# EAGLE library part STM32F407VET6 (library LARS_409_MK)
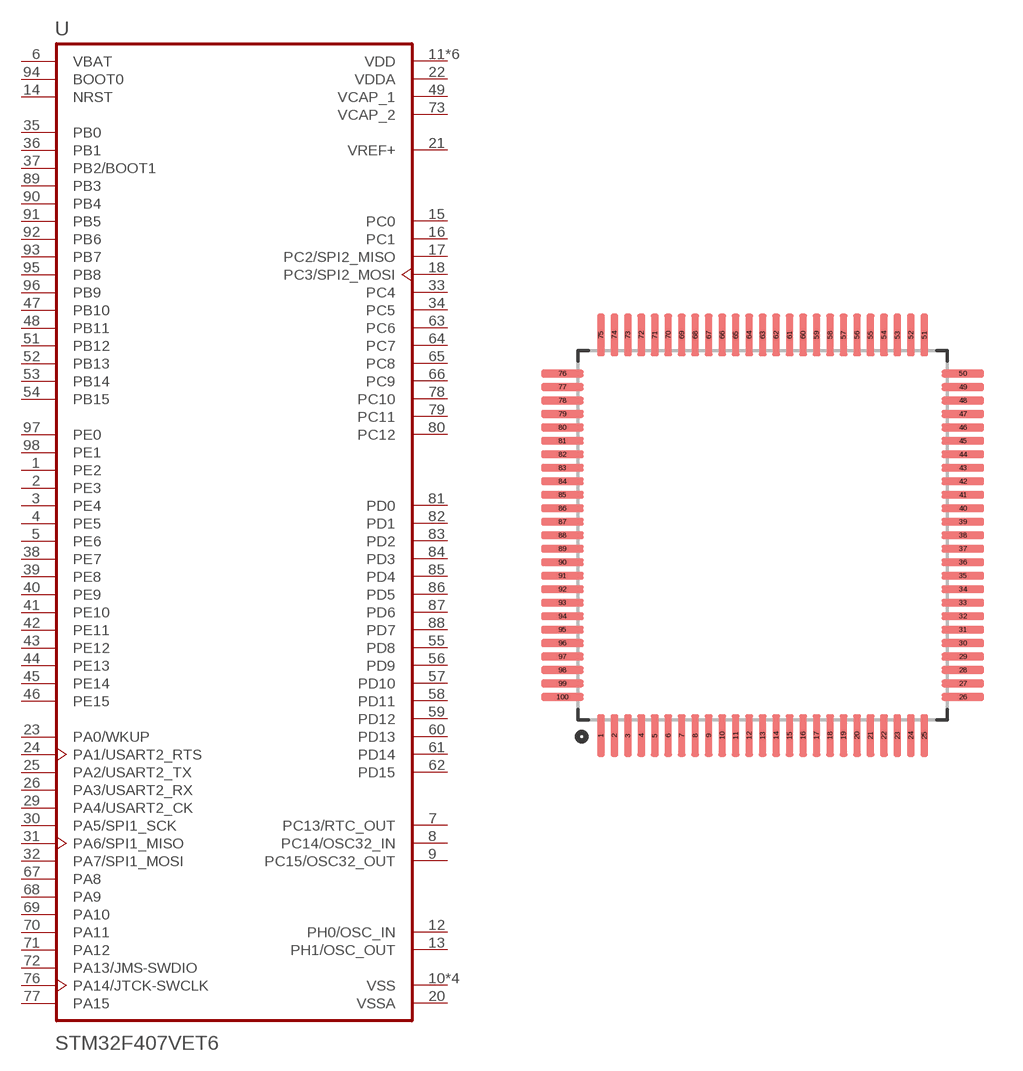
[diagram p14: symbol with the pads of LQFP-100; footprint LQFP-100]

Designator prefix U

## STM32F407VET6  [LQFP-100]
1  PE2
2  PE3
3  PE4
4  PE5
5  PE6
6  VBAT  pwr
7  PC13/RTC_OUT
8  PC14/OSC32_IN
9  PC15/OSC32_OUT
10  VSS  pwr
11  VDD  pwr
12  PH0/OSC_IN
13  PH1/OSC_OUT
14  NRST
15  PC0
16  PC1
17  PC2/SPI2_MISO
18  PC3/SPI2_MOSI
19  VDD  pwr
20  VSSA  pwr
21  VREF+
22  VDDA  pwr
23  PA0/WKUP
24  PA1/USART2_RTS
25  PA2/USART2_TX
26  PA3/USART2_RX
27  VSS  pwr
28  VDD  pwr
29  PA4/USART2_CK
30  PA5/SPI1_SCK
31  PA6/SPI1_MISO
32  PA7/SPI1_MOSI
33  PC4
34  PC5
35  PB0
36  PB1
37  PB2/BOOT1
38  PE7
39  PE8
40  PE9
41  PE10
42  PE11
43  PE12
44  PE13
45  PE14
46  PE15
47  PB10
48  PB11
49  VCAP_1  pwr
50  VDD  pwr
51  PB12
52  PB13
53  PB14
54  PB15
55  PD8
56  PD9
57  PD10
58  PD11
59  PD12
60  PD13
61  PD14
62  PD15
63  PC6
64  PC7
65  PC8
66  PC9
67  PA8
68  PA9
69  PA10
70  PA11
71  PA12
72  PA13/JMS-SWDIO
73  VCAP_2  pwr
74  VSS  pwr
75  VDD  pwr
76  PA14/JTCK-SWCLK
77  PA15
78  PC10
79  PC11
80  PC12
81  PD0
82  PD1
83  PD2
84  PD3
85  PD4
86  PD5
87  PD6
88  PD7
89  PB3
90  PB4
91  PB5
92  PB6
93  PB7
94  BOOT0
95  PB8
96  PB9
97  PE0
98  PE1
99  VSS  pwr
100  VDD  pwr

## Footprint LQFP-100 (pad centres in mm)
48-QFP, 0.50 mm pitch, 10.00 mm span, 7.20 X 7.20 X 0.90 mm body 48-pin QFP package with 0.50 mm pitch, 10.00 mm lead span1 X 10.00 mm lead span2 with body size 7.20 X 7.20 X 0.90 mm
smd 0.28 x 1.56: 1 -6,-7.43; 2 -5.5,-7.43; 3 -5,-7.43; 4 -4.5,-7.43; 5 -4,-7.43; 6 -3.5,-7.43; 7 -3,-7.43; 8 -2.5,-7.43; 9 -2,-7.43; 10 -1.5,-7.43; 11 -1,-7.43; 12 -0.5,-7.43; 13 0,-7.43; 14 0.5,-7.43; 15 1,-7.43; 16 1.5,-7.43; 17 2,-7.43; 18 2.5,-7.43; 19 3,-7.43; 20 3.5,-7.43; 21 4,-7.43; 22 4.5,-7.43; 23 5,-7.43; 24 5.5,-7.43; 25 6,-7.43; 51 6,7.43; 52 5.5,7.43; 53 5,7.43; 54 4.5,7.43; 55 4,7.43; 56 3.5,7.43; 57 3,7.43; 58 2.5,7.43; 59 2,7.43; 60 1.5,7.43; 61 1,7.43; 62 0.5,7.43; 63 0,7.43; 64 -0.5,7.43; 65 -1,7.43; 66 -1.5,7.43; 67 -2,7.43; 68 -2.5,7.43; 69 -3,7.43; 70 -3.5,7.43; 71 -4,7.43; 72 -4.5,7.43; 73 -5,7.43; 74 -5.5,7.43; 75 -6,7.43
smd 1.56 x 0.28: 26 7.43,-6; 27 7.43,-5.5; 28 7.43,-5; 29 7.43,-4.5; 30 7.43,-4; 31 7.43,-3.5; 32 7.43,-3; 33 7.43,-2.5; 34 7.43,-2; 35 7.43,-1.5; 36 7.43,-1; 37 7.43,-0.5; 38 7.43,0; 39 7.43,0.5; 40 7.43,1; 41 7.43,1.5; 42 7.43,2; 43 7.43,2.5; 44 7.43,3; 45 7.43,3.5; 46 7.43,4; 47 7.43,4.5; 48 7.43,5; 49 7.43,5.5; 50 7.43,6; 76 -7.43,6; 77 -7.43,5.5; 78 -7.43,5; 79 -7.43,4.5; 80 -7.43,4; 81 -7.43,3.5; 82 -7.43,3; 83 -7.43,2.5; 84 -7.43,2; 85 -7.43,1.5; 86 -7.43,1; 87 -7.43,0.5; 88 -7.43,0; 89 -7.43,-0.5; 90 -7.43,-1; 91 -7.43,-1.5; 92 -7.43,-2; 93 -7.43,-2.5; 94 -7.43,-3; 95 -7.43,-3.5; 96 -7.43,-4; 97 -7.43,-4.5; 98 -7.43,-5; 99 -7.43,-5.5; 100 -7.43,-6